# Altium schematic symbol library CRL5W-33k.SchLib: 1 symbol
Pins are listed as number, name and electrical type; pins without a type are passive.

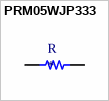
[diagram p0: symbol PRM05WJP333]

## PRM05WJP333
designator R
footprint resistor 5w vertical
pins: 1, 2